# Altium schematic symbol library DM3AT-SF-PEJM5.SchLib: 1 symbol
Pins are listed as number, name and electrical type; pins without a type are passive.

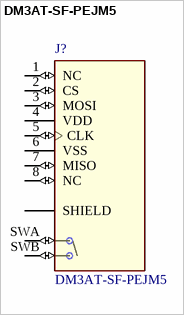
[diagram p0: symbol DM3AT-SF-PEJM5]

## DM3AT-SF-PEJM5
designator J?
DM3 RA SMT microSD memory card push/push; MF: Hirose; Digi-Key_Part_Number: HR1964CT-ND; Package: None; SnapEDA_Link: https://www.snapeda.com/parts/DM3AT-SF-PEJM5/Hirose%20Electric%20Co%20Ltd/view-part/?ref=snap; Digi-Key_Purchase_URL: https://www.digikey.com/product-detail/en/hirose-electric-co-ltd/DM3AT-SF-PEJM5/HR1964CT-ND/2533566?utm_source=snapeda&utm_medium=aggregator&utm_campaign=symbol; MP: DM3AT-SF-PEJM5; Value: *
footprint *HRS_DM3AT-SF-PEJM5_DM3AT-SF-PEJM5(Primary)
pins: 1 NC (io), 2 CS (io), 3 MOSI (io), 4 VDD (power), 5 CLK (io), 6 VSS (power), 7 MISO (io), 8 NC (io), P1 SHIELD, P2 SHIELD, P3 SHIELD, P4 SHIELD, SWA A (io), SWB B (io)